# EAGLE library part 10PIN_2ROW (library Connectors)
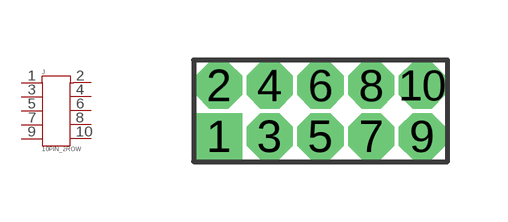
[diagram p8: symbol with the pads of 10PIN_HEADER_2ROW_PITCH1.27MM_TH; footprint 10PIN_HEADER_2ROW_PITCH1.27MM_TH]

Designator prefix J

## 10PIN_2ROW_1.27MMPITCH  [10PIN_HEADER_2ROW_PITCH1.27MM_TH]
1  1  pas
2  2  pas
3  3  pas
4  4  pas
5  5  pas
6  6  pas
7  7  pas
8  8  pas
9  9  pas
10  10  pas

## Footprint 10PIN_HEADER_2ROW_PITCH1.27MM_TH (pad centres in mm)
drill 0.65 pad 0.9 square: 1 -2.54,-0.635
drill 0.65 pad 0.9 octagon: 2 -2.54,0.635; 3 -1.27,-0.635; 4 -1.27,0.635; 5 0,-0.635; 6 0,0.635; 7 1.27,-0.635; 8 1.27,0.635; 9 2.54,-0.635; 10 2.54,0.635